# EAGLE library part SC16IS752 (library SparkFun-DigitalIC)
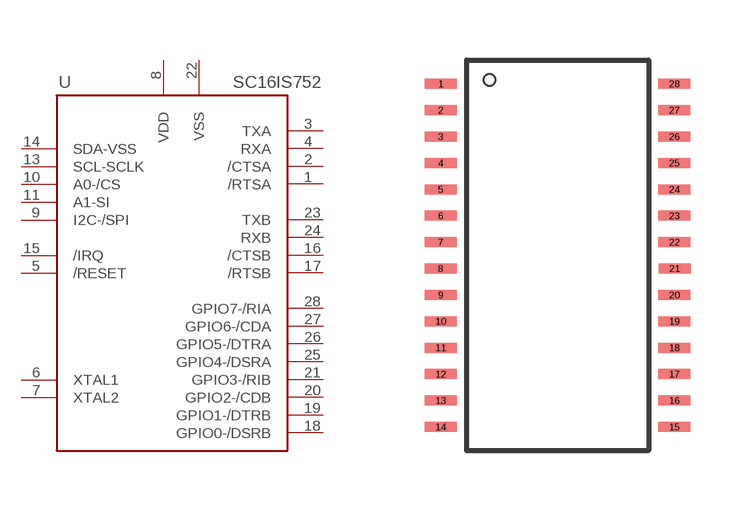
[diagram p116: symbol with the pads of TSSOP28; footprint TSSOP28]

Designator prefix -

## SC16IS752  [TSSOP28]
1  /RTSA
2  /CTSA
3  TXA
4  RXA
5  /RESET
6  XTAL1
7  XTAL2
8  VDD
9  I2C-/SPI
10  A0-/CS
11  A1-SI
13  SCL-SCLK
14  SDA-VSS
15  /IRQ
16  /CTSB
17  /RTSB
18  GPIO0-/DSRB
19  GPIO1-/DTRB
20  GPIO2-/CDB
21  GPIO3-/RIB
22  VSS
23  TXB
24  RXB
25  GPIO4-/DSRA
26  GPIO5-/DTRA
27  GPIO6-/CDA
28  GPIO7-/RIA

## Footprint TSSOP28 (pad centres in mm)
smd 0.8 x 0.25: 1 -2.921,4.623; 2 -2.921,3.962; 3 -2.921,3.302; 4 -2.921,2.642; 5 -2.921,1.981; 6 -2.921,1.321; 7 -2.921,0.66; 8 -2.927,0; 9 -2.921,-0.66; 10 -2.921,-1.321; 11 -2.921,-1.981; 12 -2.921,-2.642; 13 -2.921,-3.302; 14 -2.921,-3.962; 15 2.921,-3.962; 16 2.921,-3.302; 17 2.921,-2.642; 18 2.921,-1.981; 19 2.921,-1.321; 20 2.921,-0.66; 21 2.927,0; 22 2.921,0.66; 23 2.921,1.321; 24 2.921,1.981; 25 2.921,2.642; 26 2.921,3.302; 27 2.921,3.962; 28 2.921,4.623